# EAGLE library part TEENSY-3.2-BREAKOUT-REV-C-BASIC (library Teensy-Breakout-Eagle-Library)
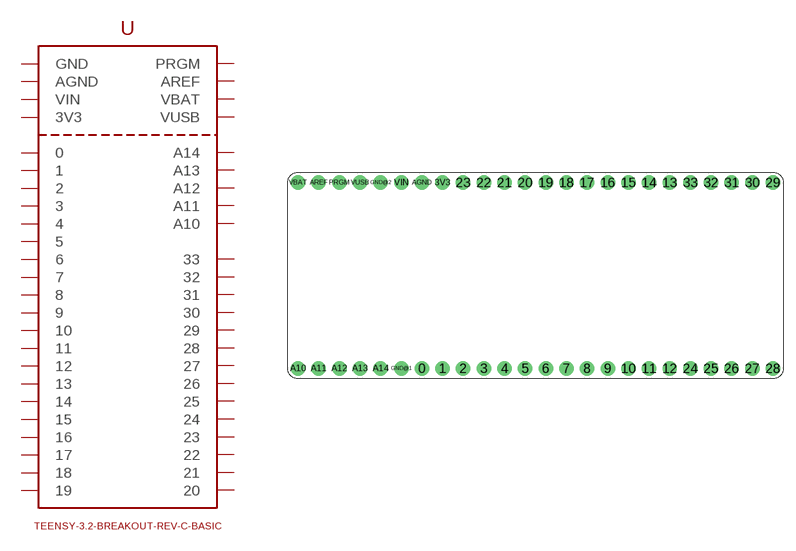
[diagram p2: symbol with the pads of TEENSY-3.2-BREAKOUT-REV-C-BASIC; footprint TEENSY-3.2-BREAKOUT-REV-C-BASIC]

Designator prefix -

## TEENSY-3.2-BREAKOUT-REV-C-BASIC  [TEENSY-3.2-BREAKOUT-REV-C-BASIC]
0  0
1  1
2  2
3  3
3V3  3V3
4  4
5  5
6  6
7  7
8  8
9  9
10  10
11  11
12  12
13  13
14  14
15  15
16  16
17  17
18  18
19  19
20  20
21  21
22  22
23  23
24  24
25  25
26  26
27  27
28  28
29  29
30  30
31  31
32  32
33  33
A10  A10
A11  A11
A12  A12
A13  A13
A14  A14
AGND  AGND
AREF  AREF
GND@1  GND
GND@2  GND
PRGM  PRGM
VBAT  VBAT
VIN  VIN
VUSB  VUSB

## Footprint TEENSY-3.2-BREAKOUT-REV-C-BASIC (pad centres in mm)
drill 1.016 pad 1.778: 0 16.51,1.27; 1 19.05,1.27; 2 21.59,1.27; 3 24.13,1.27; 3V3 19.05,24.13; 4 26.67,1.27; 5 29.21,1.27; 6 31.75,1.27; 7 34.29,1.27; 8 36.83,1.27; 9 39.37,1.27; 10 41.91,1.27; 11 44.45,1.27; 12 46.99,1.27; 13 46.99,24.13; 14 44.45,24.13; 15 41.91,24.13; 16 39.37,24.13; 17 36.83,24.13; 18 34.29,24.13; 19 31.75,24.13; 20 29.21,24.13; 21 26.67,24.13; 22 24.13,24.13; 23 21.59,24.13; 24 49.53,1.27; 25 52.07,1.27; 26 54.61,1.27; 27 57.15,1.27; 28 59.69,1.27; 29 59.69,24.13; 30 57.15,24.13; 31 54.61,24.13; 32 52.07,24.13; 33 49.53,24.13; A10 1.27,1.27; A11 3.81,1.27; A12 6.35,1.27; A13 8.89,1.27; A14 11.43,1.27; AGND 16.51,24.13; AREF 3.81,24.13; GND@1 13.97,1.27; GND@2 11.43,24.13; PRGM 6.35,24.13; VBAT 1.27,24.13; VIN 13.97,24.13; VUSB 8.89,24.13